# EAGLE library part 6621XX145024_662110145024 (library Wurth_Connectors_WR-MPC3)
WR-MPC3 3.00 mm Male Header Dual Row Right Angled with SMT Solder Tabs - SMT - Reel - Selective Gold Kind Properties Pitch 3 mm Rows Single Type Right Angled Operating Temperature -40 up to +105 °C Durability 75 Mating cycles Material Properties Insulator Material LCP Insulator Color Black Insulator Flammability Rating UL94 V-0 Pin Material Copper Alloy Pin Plating Selective Gold Electrical Properties IR 5 A Working Voltage 250 V (AC) Withstanding Voltage 1500 V (AC) Contact Resistance 10 mΩ Packaging Properties Packaging Tape and Reel Certification UL Approval E323964 <https://www.we-online.com/components/media/o726918v209%206621xx145021_Multi-Parts.jpg> Details see: www.we-online.com/components/products/WR-MPC3_3_00MM_MALE_HEADER_SINGLE_ROW_RIGHT_ANGLED_WITH_SMT_SOLDER_TABS_SMT_SELECTIVE_GOLD <www.we-online.com/catalog/WR-MPC3_3_00MM_MALE_HEADER_SINGLE_ROW_RIGHT_ANGLED_WITH_SMT_SOLDER_TABS_SMT_SELECTIVE_GOLD/?utm_source=eagle_model&utm_medium=description_link&utm_campaign=eisos_eagle> Created by Ella Wu 2023-10-12 2023 (C) Würth Elektronik
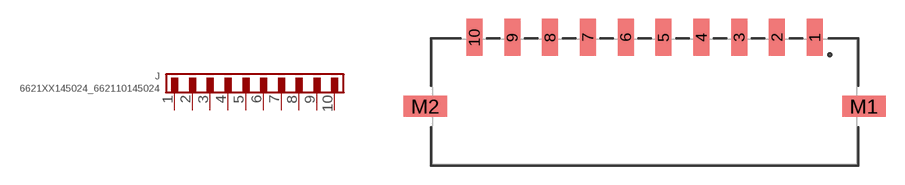
[diagram p149: symbol with the pads of 662110145024; footprint 662110145024]

Designator prefix J

## 6621XX145024_662110145024 (CONTACT-RESISTANCE: 10Ohm; DATASHEET-URL: https://www.we-online.com/redexpert/spec/662110145024?ae; GENDER: Male; IR: 5A; MOUNT: SMT; PART-NUMBER: 662110145024; PINS: 10; PITCH: 3mm; ROWS: Single; TOL-R: max.; TYPE: Right Angled; VALUE: 662110145024; WORKING-VOLTAGE: 250V(AC))  [662110145024]
1  1  pas
2  2  pas
3  3  pas
4  4  pas
5  5  pas
6  6  pas
7  7  pas
8  8  pas
9  9  pas
10  10  pas

## Footprint 662110145024 (pad centres in mm)
WR-MPC3 3.00 mm Male Header Single Row Right Angled with SMT Solder Tabs - SMT - Selective Gold 10 Pins
smd 1.27 x 2.92: 1 13.5,5.12; 2 10.5,5.12; 3 7.5,5.12; 4 4.5,5.12; 5 1.5,5.12; 6 -1.5,5.12; 7 -4.5,5.12; 8 -7.5,5.12; 9 -10.5,5.12; 10 -13.5,5.12
smd 3.43 x 1.65: M1 17.395,-0.35; M2 -17.395,-0.35